# Altium schematic symbol library diodes_semiconductors.SchLib: 5 symbols
Pins are listed as number, name and electrical type; pins without a type are passive.

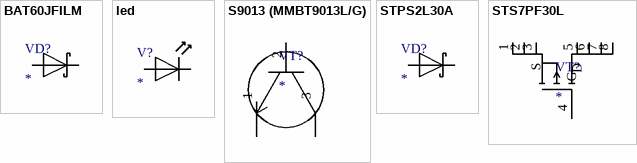
[diagram p0: symbols BAT60JFILM to STS7PF30L]

## BAT60JFILM
designator VD?
Manufacturer: STMicroelectronics; VCC: 10 В; Desc: Диод Шоттки; Ta: 125 °C; ComponentLink1Description: Source; ComponentLink1URL: https://www.chipdip.ru/product/bat60jfilm-diod-shottki-3a-10v-sod-323-st-microelectronics-9000198985; Package: SOD-323; ComponentLink2Description: Datasheet; ComponentLink2URL: *
footprint BAT60JFILM
pins: 1, 2

## led
designator V?
Desc: Диод светоизлучающий; PartNumber: *; Package: *; Color: *; Manufacturer: *; ComponentLink1Description: Source; ComponentLink1URL: *; Ta: *
footprint FYLS-0603PGC
pins: 1, 2

## S9013 (MMBT9013L/G)
designator VT?
PartNumber: S9013; Manufacturer: Hottech; VCC: 40 В; Power: 0.3 Вт; Ta: 150 °C; Type: NPN; ComponentLink1Description: Source; ComponentLink1URL: https://www.chipdip.ru/product/s9013-tranzistor-npn-25v-0.5a-hfe-120-400-0.3vt-hottech-9001276075; ComponentLink2Description: Datasheet; ComponentLink2URL: *; Package: SOT-23-3
footprint S9013 (SOT_23_3)
pins: 1, 2, 3

## STPS2L30A
designator VD?
Manufacturer: STMicroelectronics; VCC: 30 В; Desc: Диод Шоттки; Ta: 150 °C; ComponentLink1Description: Source; ComponentLink1URL: https://www.chipdip.ru/product/stps2l30a-st-microelectronics-8001998231; Package: SMA; ComponentLink2Description: Datasheet; ComponentLink2URL: https://static.chipdip.ru/lib/314/DOC018314510.pdf
footprint STPS2L30A
pins: 1, 2

## STS7PF30L
designator VT?
PartNumber: STS7PF30L; Manufacturer: STMicroelectronics; VCC: 30 В; Power: 2.5 Вт; Ta: 150 °C; Type: MOSFET; ComponentLink1Description: Source; ComponentLink1URL: https://www.chipdip.ru/product/sts7pf30l-vb-mop-tranzistor-30-v-9-a-18-m-10-p-kanal-vbsemi-8015911998; ComponentLink2Description: Datasheet; ComponentLink2URL: https://www.st.com/resource/en/datasheet/sts7pf30l.pdf; Package: SO-8
footprint STS7PF30L
pins: 1 S, 2 S, 3 S, 4 G, 5 D, 6 D, 7 D, 8 D